# EAGLE library part NLAS2750 (library glasses)
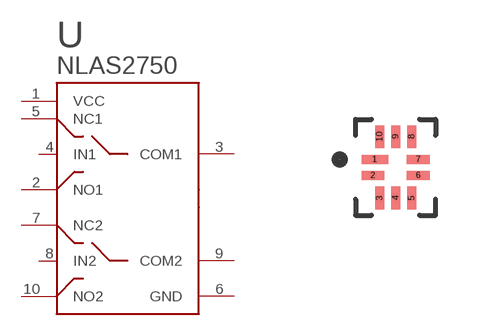
[diagram p8: symbol with the pads of UQFN10; footprint UQFN10]

Designator prefix U

## NLAS2750  [UQFN10]
1  VCC
2  NO1
3  COM1
4  IN1
5  NC1
6  GND
7  NC2
8  IN2
9  COM2
10  NO2

## Footprint UQFN10 (pad centres in mm)
smd 0.663 x 0.225: 1 -0.518,0.2
smd 0.563 x 0.225: 2 -0.569,-0.2; 6 0.569,-0.2; 7 0.569,0.2
smd 0.225 x 0.563: 3 -0.4,-0.768; 4 0,-0.768; 5 0.4,-0.768; 8 0.4,0.768; 9 0,0.768; 10 -0.4,0.768